# EAGLE library part M25P40 (library launchpad_bp)
The M25P40 is a 4 Mbit (512 K × 8) Serial Flash memory, with advanced write protection mechanisms, accessed by a high speed SPI-compatible bus. The M25P40 features high performance instructions allowing clock frequency up to 75 MHz.(1) The memory can be programmed 1 to 256 bytes at a time, using the Page Program instruction. The memory is organized as 8 sectors, each containing 256 pages. Each page is 256 bytes wide. Thus, the whole memory can be viewed as consisting of 2048 pages, or 524,288 bytes. The whole memory can be erased using the Bulk Erase instruction, or a sector at a time, using the Sector Erase instruction. In order to meet environmental requirements, Numonyx offers the M25P40 in ECOPACK® packages. ECOPACK® packages are Lead-free and RoHS compliant. ECOPACK is an Numonyx trademark. ECOPACK specifications are available at: www.Numonyx.com.
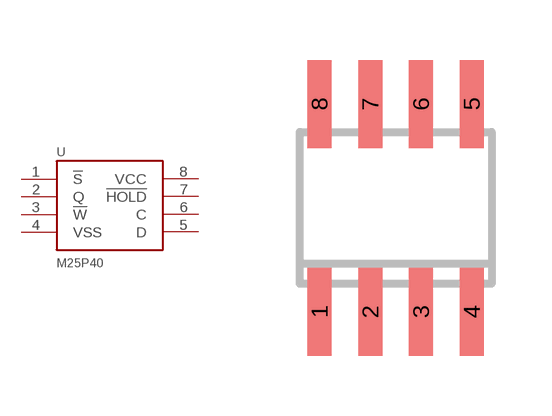
[diagram p0: symbol with the pads of SOIC8; footprint SOIC8]

Designator prefix -

## M25P40  [SOIC8]
1  !S
2  Q  out
3  !W
4  VSS  pwr
5  D
6  C
7  !HOLD
8  VCC  pwr

## Footprint SOIC8 (pad centres in mm)
Small Outline IC
smd 0.6 x 2.2: 1 -1.905,-2.6; 2 -0.635,-2.6; 3 0.635,-2.6; 4 1.905,-2.6; 5 1.905,2.6; 6 0.635,2.6; 7 -0.635,2.6; 8 -1.905,2.6